# EAGLE library part HEADER-SIDE-B (library RocketControlBoard)
2.54mm header strip
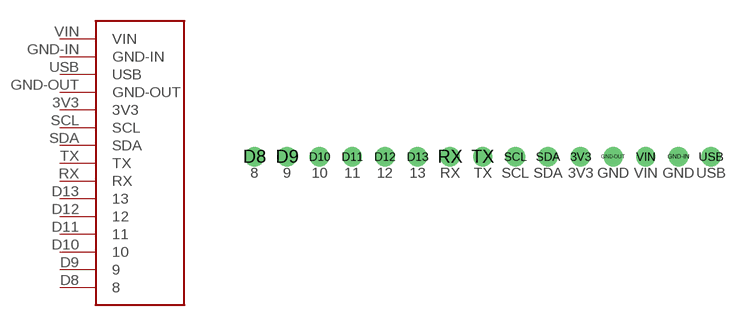
[diagram p4: symbol with the pads of HEADER-SIDE-B; footprint HEADER-SIDE-B]

Designator prefix -

## HEADER-SIDE-B  [HEADER-SIDE-B]
3V3  3V3
D8  8
D9  9
D10  10
D11  11
D12  12
D13  13
GND-IN  GND-IN
GND-OUT  GND-OUT
RX  RX
SCL  SCL
SDA  SDA
TX  TX
USB  USB
VIN  VIN

## Footprint HEADER-SIDE-B (pad centres in mm)
drill 1: 3V3 -12.7,0; D8 -38.1,0; D9 -35.56,0; D10 -33.02,0; D11 -30.48,0; D12 -27.94,0; D13 -25.4,0; GND-IN -5.08,0; GND-OUT -10.16,0; RX -22.86,0; SCL -17.78,0; SDA -15.24,0; TX -20.32,0; USB -2.54,0; VIN -7.62,0